# EAGLE library part ADUC7024 (library IC)
http://search.digikey.com/scripts/DkSearch/dksus.dll?Cat=2621773&k=ADUC7024
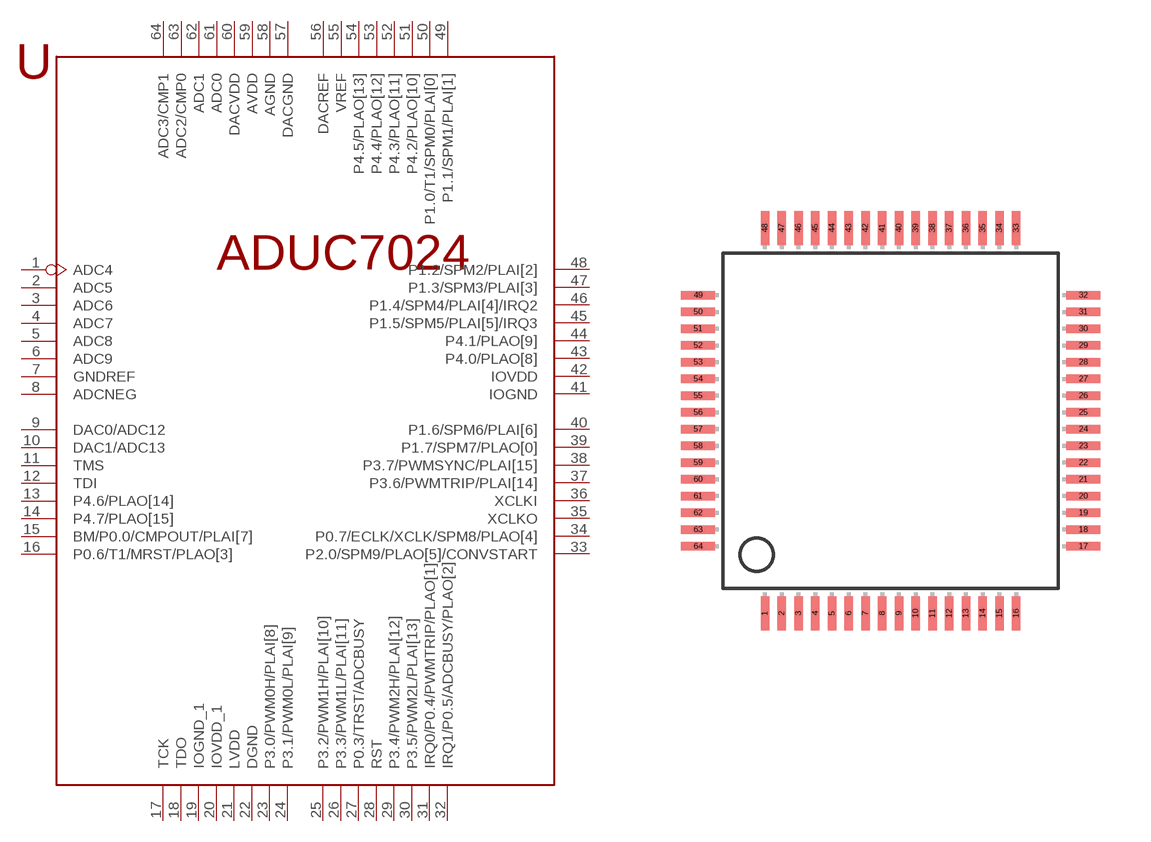
[diagram p7: symbol with the pads of LQFP64; footprint LQFP64]

Designator prefix U

## ADUC7024-LQFP64  [LQFP64]
1  ADC4
2  ADC5
3  ADC6
4  ADC7
5  ADC8
6  ADC9
7  GNDREF
8  ADCNEG
9  DAC0/ADC12
10  DAC1/ADC13
11  TMS
12  TDI
13  P4.6/PLAO[14]
14  P4.7/PLAO[15]
15  BM/P0.0/CMPOUT/PLAI[7]
16  P0.6/T1/MRST/PLAO[3]
17  TCK
18  TDO
19  IOGND_1
20  IOVDD_1
21  LVDD
22  DGND
23  P3.0/PWM0H/PLAI[8]
24  P3.1/PWM0L/PLAI[9]
25  P3.2/PWM1H/PLAI[10]
26  P3.3/PWM1L/PLAI[11]
27  P0.3/TRST/ADCBUSY
28  RST
29  P3.4/PWM2H/PLAI[12]
30  P3.5/PWM2L/PLAI[13]
31  IRQ0/P0.4/PWMTRIP/PLAO[1]
32  IRQ1/P0.5/ADCBUSY/PLAO[2]
33  P2.0/SPM9/PLAO[5]/CONVSTART
34  P0.7/ECLK/XCLK/SPM8/PLAO[4]
35  XCLKO
36  XCLKI
37  P3.6/PWMTRIP/PLAI[14]
38  P3.7/PWMSYNC/PLAI[15]
39  P1.7/SPM7/PLAO[0]
40  P1.6/SPM6/PLAI[6]
41  IOGND
42  IOVDD
43  P4.0/PLAO[8]
44  P4.1/PLAO[9]
45  P1.5/SPM5/PLAI[5]/IRQ3
46  P1.4/SPM4/PLAI[4]/IRQ2
47  P1.3/SPM3/PLAI[3]
48  P1.2/SPM2/PLAI[2]
49  P1.1/SPM1/PLAI[1]
50  P1.0/T1/SPM0/PLAI[0]
51  P4.2/PLAO[10]
52  P4.3/PLAO[11]
53  P4.4/PLAO[12]
54  P4.5/PLAO[13]
55  VREF
56  DACREF
57  DACGND
58  AGND
59  AVDD
60  DACVDD
61  ADC0
62  ADC1
63  ADC2/CMP0
64  ADC3/CMP1

## Footprint LQFP64 (pad centres in mm)
L-Quad Flat Package, 64 leads
smd 0.254 x 1.016: 1 -3.75,-5.75; 2 -3.25,-5.75; 3 -2.75,-5.75; 4 -2.25,-5.75; 5 -1.75,-5.75; 6 -1.25,-5.75; 7 -0.75,-5.75; 8 -0.25,-5.75; 9 0.25,-5.75; 10 0.75,-5.75; 11 1.25,-5.75; 12 1.75,-5.75; 13 2.25,-5.75; 14 2.75,-5.75; 15 3.25,-5.75; 16 3.75,-5.75; 33 3.75,5.75; 34 3.25,5.75; 35 2.75,5.75; 36 2.25,5.75; 37 1.75,5.75; 38 1.25,5.75; 39 0.75,5.75; 40 0.25,5.75; 41 -0.25,5.75; 42 -0.75,5.75; 43 -1.25,5.75; 44 -1.75,5.75; 45 -2.25,5.75; 46 -2.75,5.75; 47 -3.25,5.75; 48 -3.75,5.75
smd 1.016 x 0.254: 17 5.75,-3.75; 18 5.75,-3.25; 19 5.75,-2.75; 20 5.75,-2.25; 21 5.75,-1.75; 22 5.75,-1.25; 23 5.75,-0.75; 24 5.75,-0.25; 25 5.75,0.25; 26 5.75,0.75; 27 5.75,1.25; 28 5.75,1.75; 29 5.75,2.25; 30 5.75,2.75; 31 5.75,3.25; 32 5.75,3.75; 49 -5.75,3.75; 50 -5.75,3.25; 51 -5.75,2.75; 52 -5.75,2.25; 53 -5.75,1.75; 54 -5.75,1.25; 55 -5.75,0.75; 56 -5.75,0.25; 57 -5.75,-0.25; 58 -5.75,-0.75; 59 -5.75,-1.25; 60 -5.75,-1.75; 61 -5.75,-2.25; 62 -5.75,-2.75; 63 -5.75,-3.25; 64 -5.75,-3.75